# Altium footprint library pyWiFi-ESP32.PcbLib: 1 footprints
Each footprint in its own frame and in the unit in brackets; x right, y up, seen from the top. Pads: shape width x height; smd on the part's side, far side on the other; paste and mask are expansions set on the pad; w line width, h text height; cw(c..) or ccw(c..) is an arc to the next point about the centre after c.
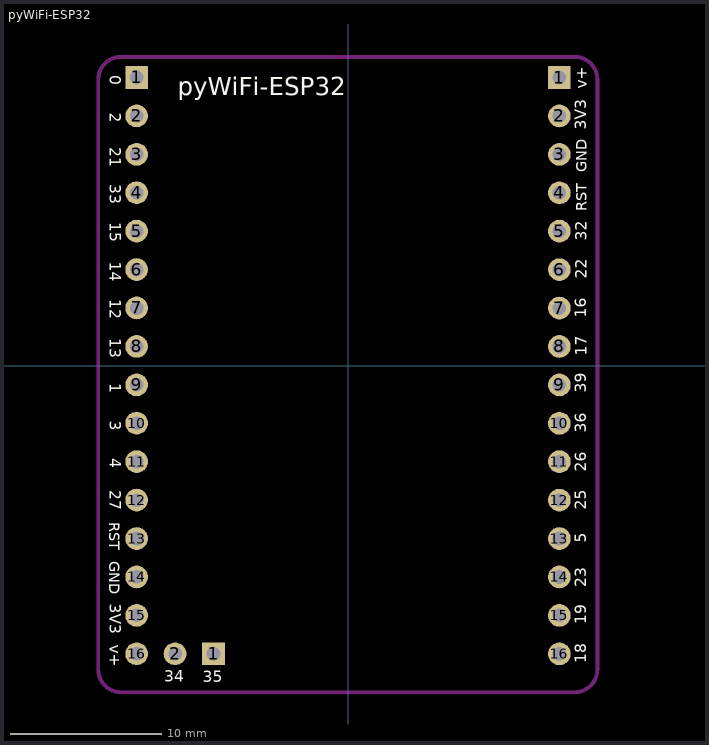
[diagram p0: the footprint, top view; thin cyan lines are the x and y axes]

## pyWiFi-ESP32 [mm]
pads (34):
  rect 1.5x1.5 hole 0.9: 1(-13.972,19.052) 1(-8.892,-19.048) 1(13.972,19.048)
  round 1.5 hole 0.9: 2(-13.972,16.512) 2(-11.432,-19.048) 2(13.972,16.508) 3(-13.972,13.972) 3(13.972,13.968) 4(-13.972,11.432) 4(13.972,11.428) 5(-13.972,8.892) 5(13.972,8.888) 6(-13.972,6.352) 6(13.972,6.348) 7(-13.972,3.812) 7(13.972,3.808) 8(-13.972,1.272) 8(13.972,1.268) 9(-13.972,-1.268) 9(13.972,-1.272) 10(-13.972,-3.808) 10(13.972,-3.812) 11(-13.972,-6.348) 11(13.972,-6.352) 12(-13.972,-8.888) 12(13.972,-8.892) 13(-13.972,-11.428) 13(13.972,-11.432) 14(-13.972,-13.968) 14(13.972,-13.972) 15(-13.972,-16.508) 15(13.972,-16.512) 16(-13.972,-19.048) 16(13.972,-19.052)
Top Overlay:
  text "35" at -9.594,-21.2 h1.27
  text "34" at -12.16,-21.149 h1.27
  text "18" at 16.019,-19.691 h1.27
  text "19" at 16.019,-17.107 h1.27
  text "23" at 16.019,-14.644 h1.27
  text "5" at 16.019,-11.724 h1.27
  text "26" at 16.019,-7.027 h1.27
  text "36" at 16.019,-4.442 h1.27
  text "39" at 16.019,-1.792 h1.27
  text "17" at 16.033,0.649 h1.27
  text "16" at 16.019,3.17 h1.27
  text "22" at 16.033,5.729 h1.27
  text "32" at 16.033,8.244 h1.27
  text "RST" at 16.02,10.193 h1.19
  text "GND" at 16.02,12.776 h1.19
  text "3V3" at 16.019,15.606 h1.27
  text "v+" at 16.033,18.315 h1.27
  text "25" at 16.019,-9.514 h1.27
  text "15" at -16.007,9.467 h1.27
  text "v+" at -16.022,-18.439 h1.27
  text "3V3" at -16.007,-15.755 h1.27
  text "GND" at -16.008,-12.925 h1.19
  text "RST" at -16.008,-10.342 h1.19
  text "27" at -16.022,-8.24 h1.27
  text "4" at -16.022,-6.107 h1.27
  text "3" at -16.007,-3.649 h1.27
  text "1" at -16.022,-1.179 h1.27
  text "13" at -16.007,1.795 h1.27
  text "12" at -16.022,4.395 h1.27
  text "14" at -16.022,6.878 h1.27
  text "33" at -16.007,11.981 h1.27
  text "21" at -16.007,14.445 h1.27
  text "2" at -16.022,16.73 h1.27
  text "0" at -16.007,19.212 h1.27
  text "pyWiFi-ESP32" at -11.254,17.477 h2.03
Bottom Overlay:
  text "34" at -10.797,-21.088 h1.27
  text "35" at -8.308,-21.139 h1.27
  text "v+" at -15.285,-18.439 h1.27
  text "3V3" at -15.3,-15.755 h1.27
  text "GND" at -15.299,-12.925 h1.19
  text "RST" at -15.299,-10.342 h1.19
  text "27" at -15.285,-8.189 h1.27
  text "4" at -15.285,-6.081 h1.27
  text "3" at -15.3,-3.623 h1.27
  text "1" at -15.285,-1.153 h1.27
  text "13" at -15.3,1.821 h1.27
  text "12" at -15.285,4.268 h1.27
  text "14" at -15.285,6.903 h1.27
  text "15" at -15.3,9.492 h1.27
  text "33" at -15.3,12.007 h1.27
  text "21" at -15.3,14.521 h1.27
  text "2" at -15.285,16.755 h1.27
  text "0" at -15.3,19.238 h1.27
  text "25" at 15.332,-9.463 h1.27
  text "18" at 15.332,-19.666 h1.27
  text "19" at 15.332,-16.98 h1.27
  text "23" at 15.332,-14.543 h1.27
  text "5" at 15.332,-11.647 h1.27
  text "26" at 15.332,-6.925 h1.27
  text "36" at 15.332,-4.417 h1.27
  text "39" at 15.332,-1.792 h1.27
  text "17" at 15.317,0.7 h1.27
  text "16" at 15.332,3.246 h1.27
  text "22" at 15.317,5.806 h1.27
  text "32" at 15.317,8.32 h1.27
  text "RST" at 15.331,10.269 h1.19
  text "GND" at 15.331,12.853 h1.19
  text "v+" at 15.317,18.366 h1.27
  text "3V3" at 15.332,15.682 h1.27
Keep-Out Layer:
  lines w0.254: -16.512,-20.088 ccw(c-15.012,-20.088) -15.012,-21.588 14.988,-21.588 ccw(c14.988,-20.088) 16.488,-20.088 16.488,18.912 ccw(c14.988,18.912) 14.988,20.412 -15.012,20.412 ccw(c-15.012,18.912) -16.512,18.912 -16.512,-20.088